# EAGLE library part AT25SF321 (library AT25SF321)
AT25SF321 Adesto Serial Flash Memory 2.5 - 3.6V SPI / Dual I/O & Quad I/O support
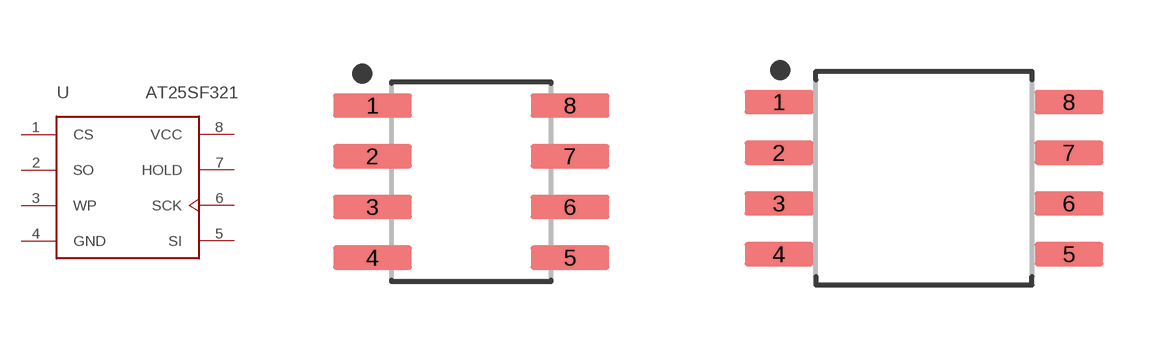
[diagram p0: symbol with the pads of SOIC127P599X175-8N; footprints SOIC127P599X175-8N, SOIC127P797X216-8N]

Designator prefix -

## AT25SF321SOIC-8-150 (MANUFACTURE: Adesto)  [SOIC127P599X175-8N]
1  CS  in
2  SO
3  WP
4  GND  pwr
5  SI
6  SCK  in
7  HOLD
8  VCC  pwr

## AT25SF321SOIC-8-208 (MANUFACTURE: Adesto)  [SOIC127P797X216-8N]
Pads as for SOIC127P599X175-8N

## AT25SF321UDFN-8 (MANU#: AT25SF321B-MHB-T; MANUFACTURE: Adesto Technology)  [SON127P600X500X60-9T340X400N]
Pads as for SOIC127P599X175-8N

## Footprint SOIC127P599X175-8N (pad centres in mm)
8-SOIC, 1.27 mm pitch, 6.00 mm span, 4.91 X 3.90 X 1.75 mm body 8-pin SOIC package with 1.27 mm pitch, 6.00 mm span with body size 4.91 X 3.90 X 1.75 mm
smd 1.965 x 0.602: 1 -2.47,1.905; 2 -2.47,0.635; 3 -2.47,-0.635; 4 -2.47,-1.905; 5 2.47,-1.905; 6 2.47,-0.635; 7 2.47,0.635; 8 2.47,1.905

## Footprint SOIC127P797X216-8N (pad centres in mm)
8-SOIC, 1.27 mm pitch, 7.97 mm span, 5.24 X 5.29 X 2.16 mm body 8-pin SOIC package with 1.27 mm pitch, 7.97 mm span with body size 5.24 X 5.29 X 2.16 mm
smd 1.716 x 0.602: 1 -3.626,1.905; 2 -3.626,0.635; 3 -3.626,-0.635; 4 -3.626,-1.905; 5 3.626,-1.905; 6 3.626,-0.635; 7 3.626,0.635; 8 3.626,1.905

## Footprint SON127P600X500X60-9T340X400N (pad centres in mm)
8-SON (DFN), 1.27 mm pitch, 5.00 X 6.00 X 0.60 mm body, 4.00 X 3.40 mm thermal pad 8-pin SON (DFN) package with 1.27 mm pitch with body size 5.00 X 6.00 X 0.60 mm and thermal pad size 4.00 X 3.40 mm
smd 1.111 x 0.462: 1 -2.817,1.905; 2 -2.817,0.635; 3 -2.817,-0.635; 4 -2.817,-1.905; 5 2.817,-1.905; 6 2.817,-0.635; 7 2.817,0.635; 8 2.817,1.905
smd 3.4 x 4: 9 0,0